# EAGLE library part LM358 (library SW_OpAmp)
Generic OP AMP also LM158; LM258; LM2904
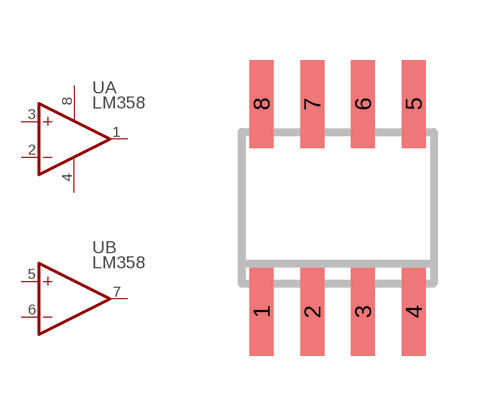
[diagram p0: symbol with the pads of SO08; footprint SO08]

Designator prefix U; gates A=OPAMP B=OPAMP P=PWR+-

## LM358SO08 (CATEGORY: OpAmps; DESCRIPTION: IC OPAMP GP 2 CIRCUIT 8SOIC; MFGS: Texas Instruments; MPNS: LM2904QDR; PACKAGE: SOIC-8; PART_NUMBER: LM358 (SOIC-8); SW_PART_NUMBER: SW0000856)  [SO08]
1  A:OUT  out
2  A:-IN  in
3  A:+IN  in
4  P:V-  pwr
5  B:+IN  in
6  B:-IN  in
7  B:OUT  out
8  P:V+  pwr

## Footprint SO08 (pad centres in mm)
Small Outline Package 8 NS Package M08A
smd 0.6 x 2.2: 1 -1.905,-2.6; 2 -0.635,-2.6; 3 0.635,-2.6; 4 1.905,-2.6; 5 1.905,2.6; 6 0.635,2.6; 7 -0.635,2.6; 8 -1.905,2.6